# EAGLE library part RP-REV2-MOAR (library RaspberryPi)
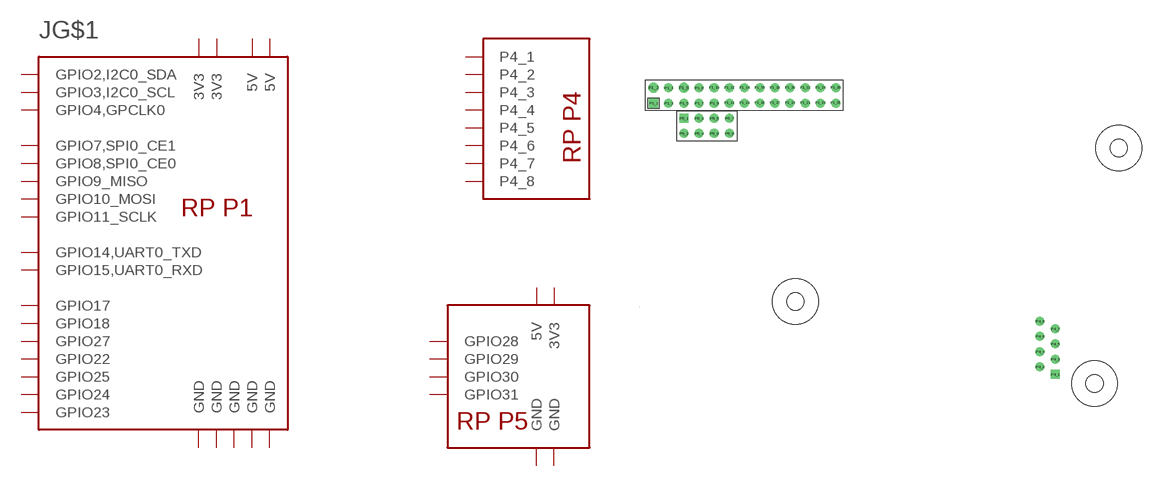
[diagram p1: symbol with the pads of RP_REV2_MOAR; footprint RP_REV2_MOAR]

Designator prefix J; gates G$1=RP-P1 G$2=RP-P4 G$3=RP-P5

## RP-REV2-MOAR  [RP_REV2_MOAR]
P1_1  G$1:3V3  pwr
P1_2  G$1:5V  pwr
P1_3  G$1:GPIO2,I2C0_SDA
P1_4  G$1:5V  pwr
P1_5  G$1:GPIO3,I2C0_SCL
P1_6  G$1:GND  pwr
P1_7  G$1:GPIO4,GPCLK0
P1_8  G$1:GPIO14,UART0_TXD
P1_9  G$1:GND  pwr
P1_10  G$1:GPIO15,UART0_RXD
P1_11  G$1:GPIO7,SPI0_CE1
P1_12  G$1:GPIO8,SPI0_CE0
P1_13  G$1:GPIO27
P1_14  G$1:GND  pwr
P1_15  G$1:GPIO22
P1_16  G$1:GPIO23
P1_17  G$1:3V3  pwr
P1_18  G$1:GPIO24
P1_19  G$1:GPIO10_MOSI
P1_20  G$1:GND  pwr
P1_21  G$1:GPIO9_MISO
P1_22  G$1:GPIO25
P1_23  G$1:GPIO11_SCLK
P1_24  G$1:GPIO18
P1_25  G$1:GND  pwr
P1_26  G$1:GPIO17
P4_1  G$2:P4_1  pas
P4_2  G$2:P4_2  pas
P4_3  G$2:P4_3  pas
P4_4  G$2:P4_4  pas
P4_5  G$2:P4_5  pas
P4_6  G$2:P4_6  pas
P4_7  G$2:P4_7  pas
P4_8  G$2:P4_8  pas
P5_1  G$3:5V  pwr
P5_2  G$3:3V3  pwr
P5_3  G$3:GPIO28
P5_4  G$3:GPIO29
P5_5  G$3:GPIO30
P5_6  G$3:GPIO31
P5_7  G$3:GND  pwr
P5_8  G$3:GND  pwr

## Footprint RP_REV2_MOAR (pad centres in mm)
drill 1 square: P1_1 2.4,50.725; P4_1 69.59,5.37; P5_1 7.48,48.185
drill 1 pad 1.676: P1_2 2.4,53.265; P1_6 7.48,53.265
drill 1: P1_3 4.94,50.725; P1_4 4.94,53.265; P1_5 7.48,50.725; P1_7 10.02,50.725; P1_8 10.02,53.265; P1_9 12.56,50.725; P1_10 12.56,53.265; P1_11 15.1,50.725; P1_12 15.1,53.265; P1_13 17.64,50.725; P1_14 17.64,53.265; P1_15 20.18,50.725; P1_16 20.18,53.265; P1_17 22.72,50.725; P1_18 22.72,53.265; P1_19 25.26,50.725; P1_20 25.26,53.265; P1_21 27.8,50.725; P1_22 27.8,53.265; P1_23 30.34,50.725; P1_24 30.34,53.265; P1_25 32.88,50.725; P1_26 32.88,53.265; P4_2 67.05,6.64; P4_3 69.59,7.91; P4_4 67.05,9.18; P4_5 69.59,10.45; P4_6 67.05,11.72; P4_7 69.59,12.99; P4_8 67.05,14.26; P5_2 7.48,45.645; P5_3 10.02,48.185; P5_4 10.02,45.645; P5_5 12.56,48.185; P5_6 12.56,45.645; P5_7 15.1,48.185; P5_8 15.1,45.645
hole 2.9 at 80.23,43.215
hole 2.9 at 26.14,17.565
hole 2.9 at 76.18,3.845